# Altium schematic symbol library Jumper.SchLib: 2 symbols
Pins are listed as number, name and electrical type; pins without a type are passive.

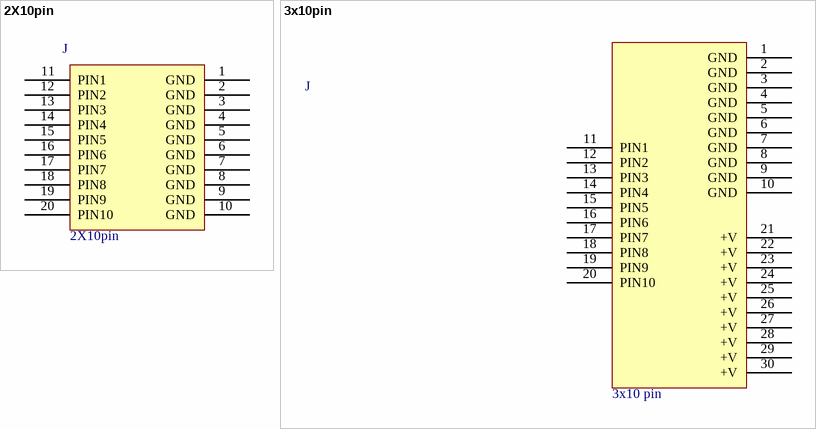
[diagram p0: symbols 2X10pin to 3x10pin]

## 2X10pin
designator J  value 2X10pin  (hidden comment: *)
footprint 2x10 pin
pins: 1 GND, 2 GND, 3 GND, 4 GND, 5 GND, 6 GND, 7 GND, 8 GND, 9 GND, 10 GND, 11 PIN1, 12 PIN2, 13 PIN3, 14 PIN4, 15 PIN5, 16 PIN6, 17 PIN7, 18 PIN8, 19 PIN9, 20 PIN10

## 3x10pin
designator J  value 3x10 pin  (hidden comment: *)
footprint 3x10 pin
pins: 1 GND, 2 GND, 3 GND, 4 GND, 5 GND, 6 GND, 7 GND, 8 GND, 9 GND, 10 GND, 11 PIN1, 12 PIN2, 13 PIN3, 14 PIN4, 15 PIN5, 16 PIN6, 17 PIN7, 18 PIN8, 19 PIN9, 20 PIN10, 21 +V, 22 +V, 23 +V, 24 +V, 25 +V, 26 +V, 27 +V, 28 +V, 29 +V, 30 +V